# Altium schematic symbol library FAN4174.Schlib: 1 symbol
Pins are listed as number, name and electrical type; pins without a type are passive.

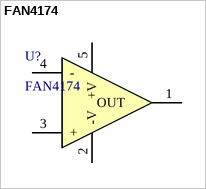
[diagram p0: symbol FAN4174]

## FAN4174
designator U?
pins: 1 OUT     , 2 -V, 3 +, 4 -, 5 +V